# EAGLE library part LM393AD (library other)
LM393ADG4, Dual Comparator Open Collector 1.3s 2-kanalers 3, 5, 9, 12, 15, 18, 24, 28V 8-Pin SOIC Source: Datasheet <http://www.ti.com/lit/ds/symlink/lm393a.pdf>
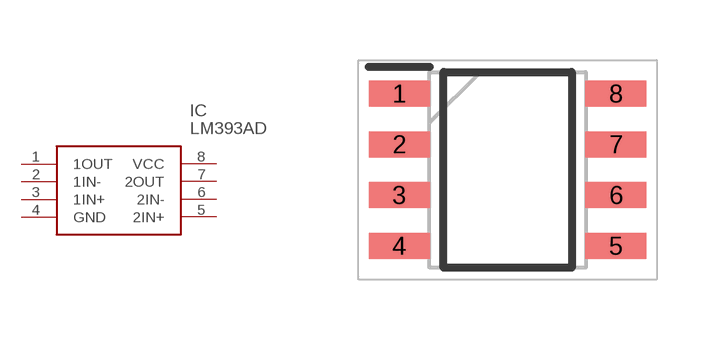
[diagram p6: symbol with the pads of SOIC127P600X175-8N; footprint SOIC127P600X175-8N]

Designator prefix IC

## LM393AD (ARROW_PART_NUMBER: LM393AD; ARROW_PRICE/STOCK: https://www.arrow.com/en/products/lm393ad/texas-instruments; DESCRIPTION: LM393ADG4, Dual Comparator Open Collector 1.3s 2-kanalers 3, 5, 9, 12, 15, 18, 24, 28V 8-Pin SOIC; HEIGHT: 1.75mm; MANUFACTURER_NAME: Texas Instruments; MANUFACTURER_PART_NUMBER: LM393AD; RS_PART_NUMBER: 6612810; RS_PRICE/STOCK: http://uk.rs-online.com/web/p/products/6612810)  [SOIC127P600X175-8N]
1  1OUT  out
2  1IN-  in
3  1IN+  in
4  GND  pwr
5  2IN+  in
6  2IN-  in
7  2OUT  out
8  VCC  pwr

## Footprint SOIC127P600X175-8N (pad centres in mm)
8 SO
smd 1.525 x 0.65: 1 -2.712,1.905; 2 -2.712,0.635; 3 -2.712,-0.635; 4 -2.712,-1.905; 5 2.712,-1.905; 6 2.712,-0.635; 7 2.712,0.635; 8 2.712,1.905